# EAGLE library part PENDANT (library libliblib)
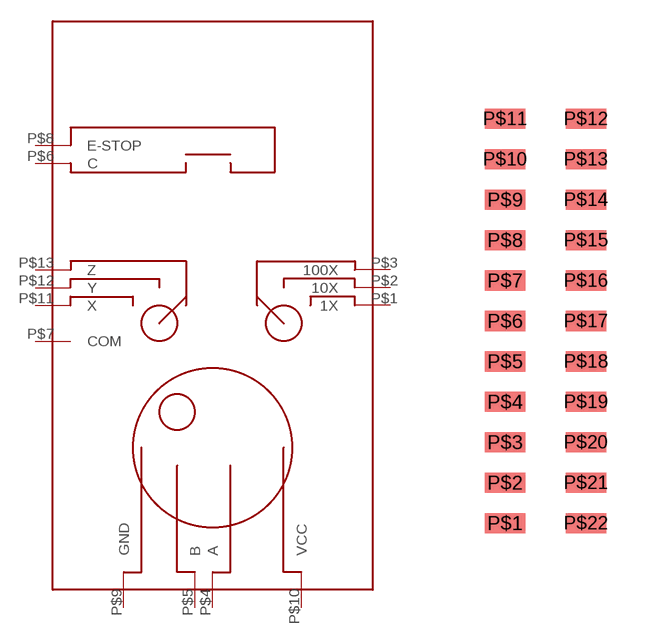
[diagram p5: symbol with the pads of PENDANT; footprint PENDANT]

Designator prefix -

## PENDANT  [PENDANT]
P$1  1X
P$2  10X
P$3  100X
P$4  A
P$5  B
P$6  C
P$7  COM
P$8  E-STOP
P$9  GND
P$10  VCC
P$11  X
P$12  Y
P$13  Z

## Footprint PENDANT (pad centres in mm)
smd 1.27 x 0.635: P$1 -1.27,0; P$2 -1.27,1.27; P$3 -1.27,2.54; P$4 -1.27,3.81; P$5 -1.27,5.08; P$6 -1.27,6.35; P$7 -1.27,7.62; P$8 -1.27,8.89; P$9 -1.27,10.16; P$10 -1.27,11.43; P$11 -1.27,12.7; P$12 1.27,12.7; P$13 1.27,11.43; P$14 1.27,10.16; P$15 1.27,8.89; P$16 1.27,7.62; P$17 1.27,6.35; P$18 1.27,5.08; P$19 1.27,3.81; P$20 1.27,2.54; P$21 1.27,1.27; P$22 1.27,0